# Altium footprint library MOLEX-0705450003.PcbLib: 1 footprints
Each footprint in its own frame and in the unit in brackets; x right, y up, seen from the top. Pads: shape width x height; smd on the part's side, far side on the other; paste and mask are expansions set on the pad; w line width, h text height; cw(c..) or ccw(c..) is an arc to the next point about the centre after c.
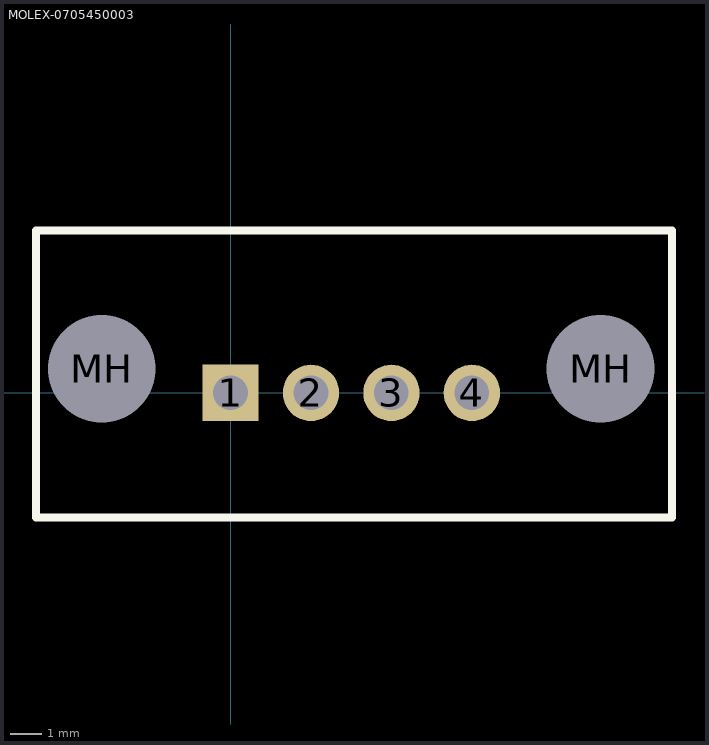
[diagram p0: the footprint, top view; thin cyan lines are the x and y axes]

## MOLEX-0705450003 [mil] "4 Pin Vertical Header"
height 450
pads (6):
  rect 70x70 hole 43: 1(0,0)
  round 70 hole 43: 2(100,0) 3(200,0) 4(300,0)
  round 109 hole 134 unplated: MH(-160,30) MH(460,30)
Top Overlay:
  lines w10: -242,-155 549,-155 549,202 -242,202 -242,-155
3D body: height 465, standoff -130, extent -194,-100 494,160